# Altium schematic symbol library RF_ESP8266.SchLib: 1 symbol
Pins are listed as number, name and electrical type; pins without a type are passive.

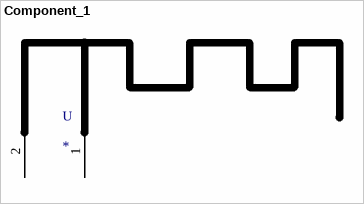
[diagram p0: symbol Component_1]

## Component_1
designator U
footprint PCBComponent_1
pins: 1 LNA, 2 GND "Ground"